# Altium footprint library RF.PcbLib: 1 footprints
Each footprint in its own frame and in the unit in brackets; x right, y up, seen from the top. Pads: shape width x height; smd on the part's side, far side on the other; paste and mask are expansions set on the pad; w line width, h text height; cw(c..) or ccw(c..) is an arc to the next point about the centre after c.
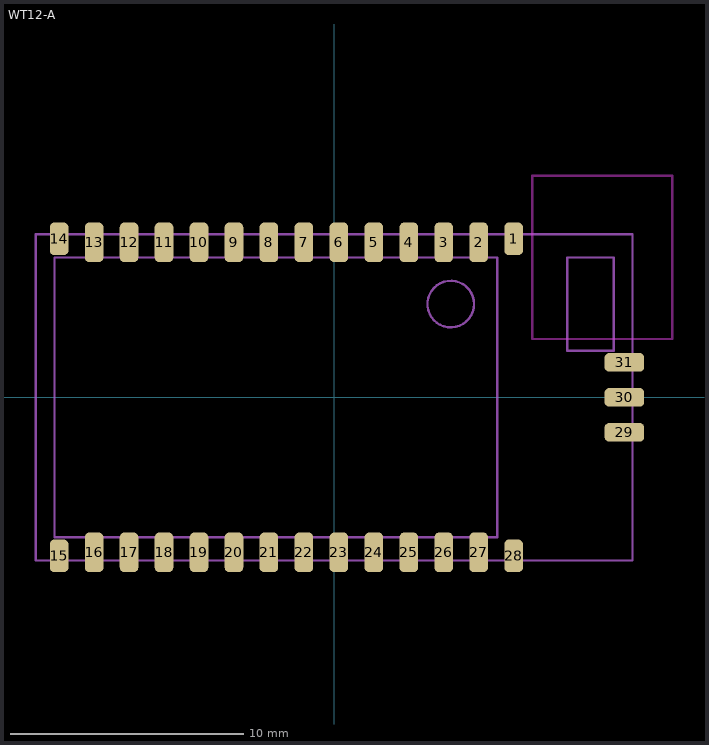
[diagram p0: the footprint, top view; thin cyan lines are the x and y axes]

## WT12-A [mm]
pads (31):
  rrect50% 0.8x1.4 smd: 1(7.7,6.8) 14(-11.8,6.8) 15(-11.8,-6.8) 28(7.7,-6.8)
  rrect50% 0.8x1.7 smd: 2(6.2,6.65) 3(4.7,6.65) 4(3.2,6.65) 5(1.7,6.65) 6(0.2,6.65) 7(-1.3,6.65) 8(-2.8,6.65) 9(-4.3,6.65) 10(-5.8,6.65) 11(-7.3,6.65) 12(-8.8,6.65) 13(-10.3,6.65) 16(-10.3,-6.65) 17(-8.8,-6.65) 18(-7.3,-6.65) 19(-5.8,-6.65) 20(-4.3,-6.65) 21(-2.8,-6.65) 22(-1.3,-6.65) 23(0.2,-6.65) 24(1.7,-6.65) 25(3.2,-6.65) 26(4.7,-6.65) 27(6.2,-6.65)
  rrect50% 1.7x0.8 smd: 29(12.45,-1.5) 30(12.45,0) 31(12.45,1.5)
Mechanical 4:
  text ".Designator" at -8,0 h2
Mechanical 13:
  circle w0.1: c5,4 r1
  lines w0.1: -12.8,-7 12.8,-7 12.8,7 -12.8,7 -12.8,-7 ; -12,-6 7,-6 7,6 -12,6 -12,-6 ; 10,2 10,6 12,6 12,2 10,2
Multi-Layer keep-out:
  lines w0.1: 8.5,2.5 14.5,2.5 14.5,9.5 8.5,9.5 8.5,2.5
3D body: height 2.4, standoff -0.1, extent -12.875,-7 12.725,7